# EAGLE library part EDE-1200 (library ede)
E-Lab Digital Engineering Unipolar Stepper Motor control IC
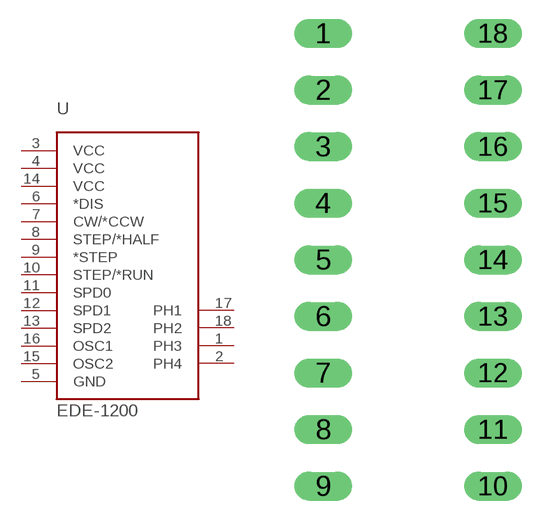
[diagram p0: symbol with the pads of DIP18; footprint DIP18]

Designator prefix U

## EDE-1200  [DIP18]
1  PH3  out
2  PH4  out
3  VCC  pwr
4  VCC  pwr
5  GND  pwr
6  *DIS  in
7  CW/*CCW  in
8  STEP/*HALF  in
9  *STEP  in
10  STEP/*RUN  in
11  SPD0  in
12  SPD1  in
13  SPD2  in
14  VCC  pwr
15  OSC2  pas
16  OSC1  pas
17  PH1  out
18  PH2  out

## Footprint DIP18 (pad centres in mm)
drill 0.8 long: 1 -3.81,10.16; 2 -3.81,7.62; 3 -3.81,5.08; 4 -3.81,2.54; 5 -3.81,0; 6 -3.81,-2.54; 7 -3.81,-5.08; 8 -3.81,-7.62; 9 -3.81,-10.16; 10 3.81,-10.16; 11 3.81,-7.62; 12 3.81,-5.08; 13 3.81,-2.54; 14 3.81,0; 15 3.81,2.54; 16 3.81,5.08; 17 3.81,7.62; 18 3.81,10.16